# Altium footprint library Electromagnetic Op-Amp Board.PcbLib: 2 footprints
Each footprint in its own frame and in the unit in brackets; x right, y up, seen from the top. Pads: shape width x height; smd on the part's side, far side on the other; paste and mask are expansions set on the pad; w line width, h text height; cw(c..) or ccw(c..) is an arc to the next point about the centre after c.
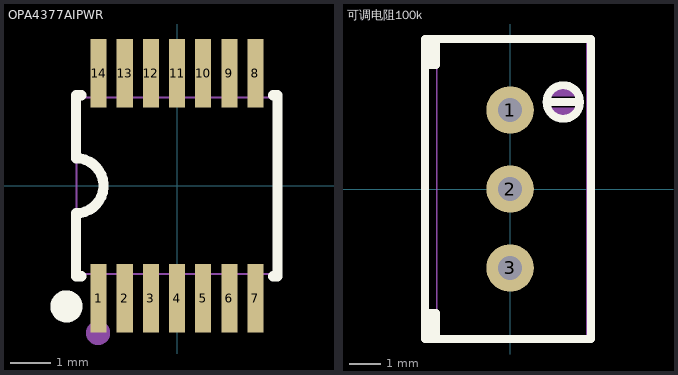
[diagram p0: the footprints below, top view; thin cyan lines are the x and y axes]

## OPA4377AIPWR [mm]
pads (14):
  rect 0.4x1.7 smd mask+0.051: 1(-1.95,-2.8) 2(-1.3,-2.8) 3(-0.65,-2.8) 4(0,-2.8) 5(0.65,-2.8) 6(1.3,-2.8) 7(1.95,-2.8) 8(1.95,2.8) 9(1.3,2.8) 10(0.65,2.8) 11(0,2.8) 12(-0.65,2.8) 13(-1.3,2.8) 14(-1.95,2.8)
Top Overlay:
  circle w0.4: c-2.75,-3 r0.2
  lines w0.254: -2.515,-2.25 -2.515,-1.6 -2.515,-0.686 ccw(c-2.515,0) -2.515,0.686 -2.515,1.6 -2.515,2.25 ; -2.5,-2.25 -2.384,-2.25 ; -2.5,2.25 -2.384,2.25 ; 2.384,-2.25 2.5,-2.25 2.5,2.25 2.384,2.25
Mechanical 6:
  circle w0.3: c-1.964,-3.662 r0.15
Mechanical 15:
  drawing of 33 lines, arcs and shapes, not listed

## 可调电阻100k [mil]
pads (3):
  round 60 hole 30 mask+2: 1(0,100) 2(0,-0.01) 3(0,-100)
Top Overlay:
  lines w10: 52.36,110.4 67.36,110.4 ; 88.61,110 cw(c67.35,110.2) 88.61,110.4 ; 67.36,110.4 82.36,110.4 67.36,110.4 ; -107.64,-190 -107.64,190 102.36,190 102.36,-190 -107.64,-190 ; -101.58,-187 -101.58,-157 -93.71,-157 -93.71,-187 -101.58,-187 ; -101.58,157.01 -101.58,187.01 -93.71,187.01 -93.71,157.01 -101.58,157.01
Mechanical 6:
  region: 47.45,103.15 48.59,100.11 52.58,94.99 57.92,91.29 64.11,89.35 70.61,89.35 76.8,91.29 82.14,94.99 86.13,100.11 87.27,103.15
  region: 87.27,117.65 86.13,120.69 82.14,125.81 76.81,129.51 70.61,131.45 64.12,131.45 57.92,129.51 52.58,125.81 48.59,120.69 47.45,117.65
Mechanical 15:
  region: 9.84,-100.39 9.84,-98.43 8.34,-94.82 5.57,-92.05 1.96,-90.55 -1.96,-90.55 -5.57,-92.05 -8.34,-94.82 -9.84,-98.43 -9.84,-100.39 -9.84,-102.35 -8.34,-105.96 -5.57,-108.73 -1.96,-110.23 1.96,-110.23 5.57,-108.73 8.34,-105.96 9.84,-102.35 9.84,-100.39
  region: 9.84,0.4 9.84,2.36 8.34,5.97 5.57,8.74 1.96,10.24 -1.96,10.24 -5.57,8.74 -8.34,5.97 -9.84,2.36 -9.84,0.4 -9.84,-1.56 -8.34,-5.17 -5.57,-7.94 -1.96,-9.44 1.96,-9.44 5.57,-7.94 8.34,-5.17 9.84,-1.56 9.84,0.4
  region: 9.84,100.4 9.84,102.36 8.34,105.97 5.57,108.74 1.96,110.24 -1.96,110.24 -5.57,108.74 -8.34,105.97 -9.84,102.36 -9.84,100.4 -9.84,98.44 -8.34,94.83 -5.57,92.06 -1.96,90.56 1.96,90.56 5.57,92.06 8.34,94.83 9.84,98.44 9.84,100.4
  region: -90.36,187.6 -90.36,188.58 -91.74,189.96 -93.7,189.96 -95.08,188.58 -95.08,187.6 -95.08,186.62 -93.7,185.24 -91.74,185.24 -90.36,186.62 -90.36,187.6
  lines w2: -92.72,-187.59 -92.72,187.6 97.44,187.6 97.44,-187.59 -92.72,-187.59